# Altium schematic symbol library SIM808.SchLib: 1 symbol
Pins are listed as number, name and electrical type; pins without a type are passive.

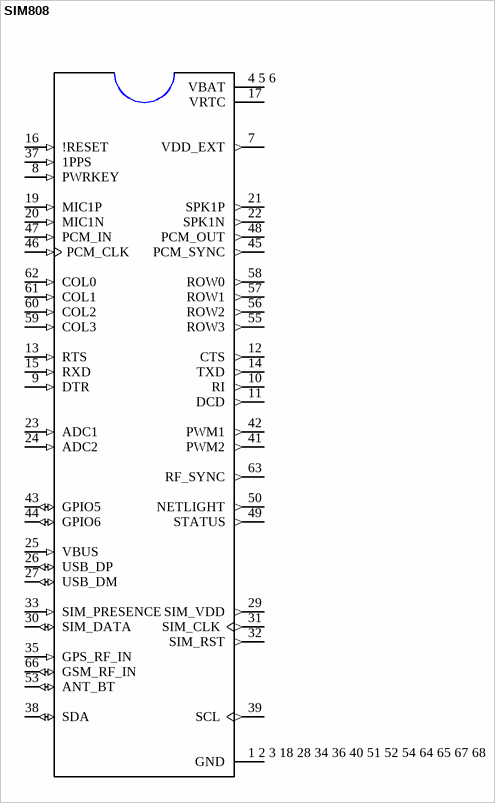
[diagram p0: symbol SIM808]

## SIM808
designator IC?  (value not drawn)
Value: *
footprint QFN100P2400X2400X260-68N_SIM808(Primary)
pins: 1 2 3 18 28 34 36 40 51 52 54 64 65 67 68 GND, 4 5 6 VBAT (power), 7 VDD_EXT (out), 8 PWRKEY (in), 9 DTR (in), 10 RI (out), 11 DCD (out), 12 CTS (out), 13 RTS (in), 14 TXD (out), 15 RXD (in), 16 !RESET (in), 17 VRTC (power), 19 MIC1P (in), 20 MIC1N (in), 21 SPK1P (out), 22 SPK1N (out), 23 ADC1 (in), 24 ADC2 (in), 25 VBUS (in), 26 USB_DP (io), 27 USB_DM (io), 29 SIM_VDD (out), 30 SIM_DATA (io), 31 SIM_CLK (out), 32 SIM_RST (out), 33 SIM_PRESENCE (in), 35 GPS_RF_IN (in), 37 1PPS (in), 38 SDA (io), 39 SCL (out), 41 PWM2 (out), 42 PWM1 (out), 43 GPIO5 (io), 44 GPIO6 (io), 45 PCM_SYNC (out), 46 PCM_CLK (in), 47 PCM_IN (in), 48 PCM_OUT (out), 49 STATUS (out), 50 NETLIGHT (out), 53 ANT_BT (io), 55 ROW3 (out), 56 ROW2 (out), 57 ROW1 (out), 58 ROW0 (out), 59 COL3 (in), 60 COL2 (in), 61 COL1 (in), 62 COL0 (in), 63 RF_SYNC (out), 66 GSM_RF_IN (io)